# Altium footprint library PCB - IC-Memory - 47219-2001.PcbLib: 1 footprints
Each footprint in its own frame and in the unit in brackets; x right, y up, seen from the top. Pads: shape width x height; smd on the part's side, far side on the other; paste and mask are expansions set on the pad; w line width, h text height; cw(c..) or ccw(c..) is an arc to the next point about the centre after c.
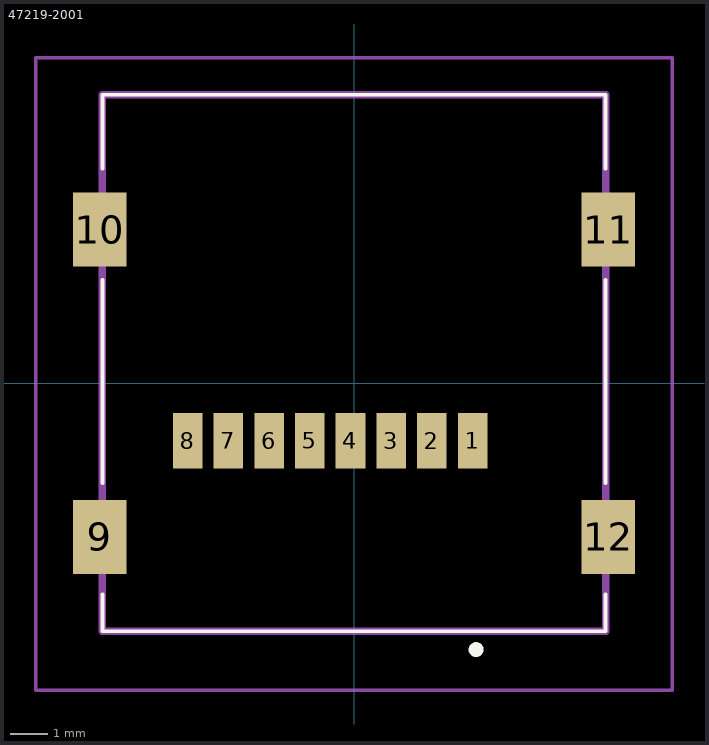
[diagram p0: the footprint, top view; thin cyan lines are the x and y axes]

## 47219-2001 [mm]
pads (12):
  rect 0.8x1.5 smd: 1(3.205,-1.55) 2(2.105,-1.55) 3(1.005,-1.55) 4(-0.095,-1.55) 5(-1.195,-1.55) 6(-2.295,-1.55) 7(-3.395,-1.55) 8(-4.495,-1.55)
  rect 1.45x2 smd: 9(-6.875,-4.15) 10(-6.875,4.15) 11(6.875,4.15) 12(6.875,-4.15)
Top Overlay:
  lines w0.1: -6.8,-5.7 -6.8,-6.7 6.8,-6.7 6.8,-5.7 ; -6.8,-2.7 -6.8,2.8 ; -6.8,5.8 -6.8,6.3 -6.8,7.8 6.8,7.8 6.8,6.3 6.8,5.8 ; 6.8,-2.7 6.8,2.8
  lines w0.2: 3.2,-7.2 cw(c3.3,-7.2) 3.4,-7.2 cw(c3.3,-7.2) 3.2,-7.2
Mechanical 13:
  lines w0.2: -6.8,-6.7 6.8,-6.7 6.8,7.8 -6.8,7.8 -6.8,-6.7
Mechanical 15:
  lines w0.1: -8.6,-8.3 8.6,-8.3 8.6,8.8 -8.6,8.8 -8.6,-8.3
3D body "47219-2001.stp": height 1.9, standoff 0, extent -7.38,-6.69 7.22,7.81